# Altium integrated library Capacitor_TH_5mm.IntLib: 1 symbol
Pins are listed as number, name and electrical type; pins without a type are passive.

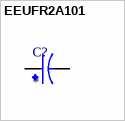
[diagram p0: symbol EEUFR2A101]

## EEUFR2A101
designator C?
Aluminum Electrolytic Capacitors - Radial Leaded 100VDC 100uF 20% L/S=5mm; MF: Panasonic; MP: EEU-FR2A101; Availability: In Stock; Price: None; SnapEDA_Link: https://www.snapeda.com/parts/EEU-FR2A101/Panasonic/view-part/6222715/?ref=snap; Value: *; Check_prices: https://www.snapeda.com/parts/EEU-FR2A101/Panasonic/view-part/6222715/?ref=eda; Package: RADIAL-2 Panasonic
footprint CAPPRD500W60D1000H2000
pins: N, P